# Altium schematic symbol library bien tro 100k.SchLib: 2 symbols
Pins are listed as number, name and electrical type; pins without a type are passive.

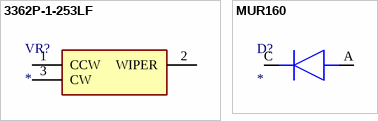
[diagram p0: symbols 3362P-1-253LF to MUR160]

## 3362P-1-253LF
designator VR?
Variable Resistor; Manufacturer_Name: Bourns; Manufacturer_Part_Number: 3362P-1-253LF; Datasheet Link: https://www.bourns.com/docs/Product-Datasheets/3362.pdf; Mouser Part Number: 652-3362P-1-253LF; Mouser Price/Stock: https://www.mouser.co.uk/ProductDetail/Bourns/3362P-1-253LF?qs=zzU3Rk5EtVOwWhuxjgYxLA%3D%3D; Arrow Part Number: 3362P-1-253LF; Arrow Price/Stock: https://www.arrow.com/en/products/3362p-1-253lf/bourns?region=nac
footprint 3362P_1
pins: 1 CCW, 2 WIPER, 3 CW

## MUR160
designator D?
Diode; Manufacturer_Name: onsemi; Manufacturer_Part_Number: UF4007; Datasheet Link: https://www.onsemi.com/pub/Collateral/UF4007-D.pdf; Mouser Part Number: 512-UF4007; Mouser Price/Stock: https://www.mouser.co.uk/ProductDetail/onsemi-Fairchild/UF4007?qs=NwIfwa72FlplAHiXupLMBA%3D%3D; Arrow Part Number: UF4007; Arrow Price/Stock: https://www.arrow.com/en/products/uf4007/on-semiconductor?utm_currency=USD&region=europe
footprint DIOAD1300W80L670D310
pins: A, C K